# Altium schematic symbol library GCM21BR72A104KA37L.SchLib: 1 symbol
Pins are listed as number, name and electrical type; pins without a type are passive.

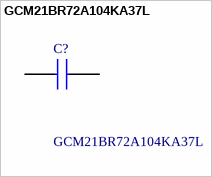
[diagram p0: symbol GCM21BR72A104KA37L]

## GCM21BR72A104KA37L
designator C?
Ceramic  SMT capacitor 100nF 100Vdc Murata 100nF Multilayer Ceramic Capacitor (MLCC) 100 V dc +/-10% X7R dielectric GCM Surface Mount max op. temp. +125C; Manufacturer_Name: Murata Electronics; Geometry.Height: 1.4mm; Mouser Part Number: 81-GCM21BR72A104KA7L; Mouser Price/Stock: https://www.mouser.co.uk/ProductDetail/Murata-Electronics/GCM21BR72A104KA37L?qs=aEuGZpxfbxU57i7kalIPTw%3D%3D; Manufacturer_Part_Number: GCM21BR72A104KA37L; Datasheet Link: https://psearch.en.murata.com/capacitor/product/GCM21BR72A104KA37%23.html
footprint CAPC2012X140N
pins: 1, 2